# Altium footprint library TPS61232DRCT.PcbLib: 2 footprints
Each footprint in its own frame and in the unit in brackets; x right, y up, seen from the top. Pads: shape width x height; smd on the part's side, far side on the other; paste and mask are expansions set on the pad; w line width, h text height; cw(c..) or ccw(c..) is an arc to the next point about the centre after c.
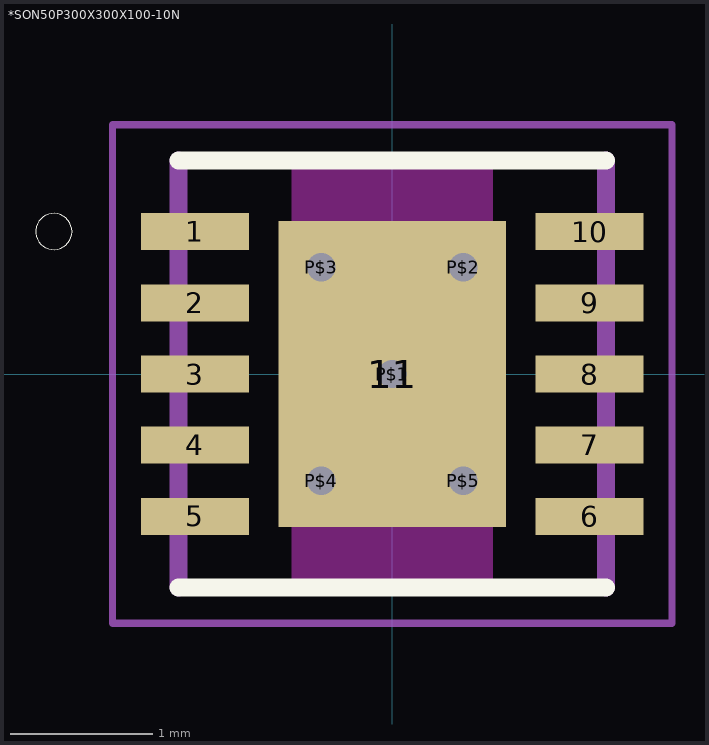
[diagram p0: the footprints below, top view; thin cyan lines are the x and y axes]

## *SON50P300X300X100-10N [mm]
pads (16):
  rect 0.76x0.26 smd: 1(-1.385,1) 2(-1.385,0.5) 3(-1.385,0) 4(-1.385,-0.5) 5(-1.385,-1) 6(1.385,-1) 7(1.385,-0.5) 8(1.385,0) 9(1.385,0.5) 10(1.385,1)
  rect 1.6x2.15 smd: 11(0,0)
  round 0.3 hole 0.2: P$1(0,0) P$2(0.5,0.75) P$3(-0.5,0.75) P$4(-0.5,-0.75) P$5(0.5,-0.75)
Top Overlay:
  circle w0: c-2.375,1 r0.127
  lines w0.127: -1.5,-1.5 1.5,-1.5 ; -1.5,1.5 1.5,1.5
Top Paste:
  region: -0.09,-0.902 -0.621,-0.902 -0.621,-0.09 -0.09,-0.09
  region: -0.09,0.09 -0.621,0.09 -0.621,0.9 -0.09,0.9
  region: 0.09,-0.09 0.62,-0.09 0.62,-0.901 0.09,-0.901
  region: 0.09,0.9 0.62,0.9 0.62,0.09 0.09,0.09
Keep-Out Layer:
  region: -0.705,-1.505 0.705,-1.505 0.705,-1.075 -0.705,-1.075
  region: -0.705,1.075 0.705,1.075 0.705,1.505 -0.705,1.505
  region: -0.705,-1.505 0.705,-1.505 0.705,-1.075 -0.705,-1.075
  region: -0.705,1.075 0.705,1.075 0.705,1.505 -0.705,1.505
  region: -0.705,-1.505 0.705,-1.505 0.705,-1.075 -0.705,-1.075
  region: -0.705,1.075 0.705,1.075 0.705,1.505 -0.705,1.505
Mechanical 4:
  lines w0.127: -1.5,-1.5 -1.5,1.5 -1.5,-1.5 ; 1.5,-1.5 1.5,1.5 1.5,-1.5
Mechanical 16:
  lines w0.05: -1.965,-1.75 -1.965,1.75 1.965,1.75 1.965,-1.75 -1.965,-1.75

## PCBComponent_1 [mm]